# Altium integrated library Linear Technology Power Management Hot Swap Controllers.IntLib: 992 symbols (part 60 of 93)
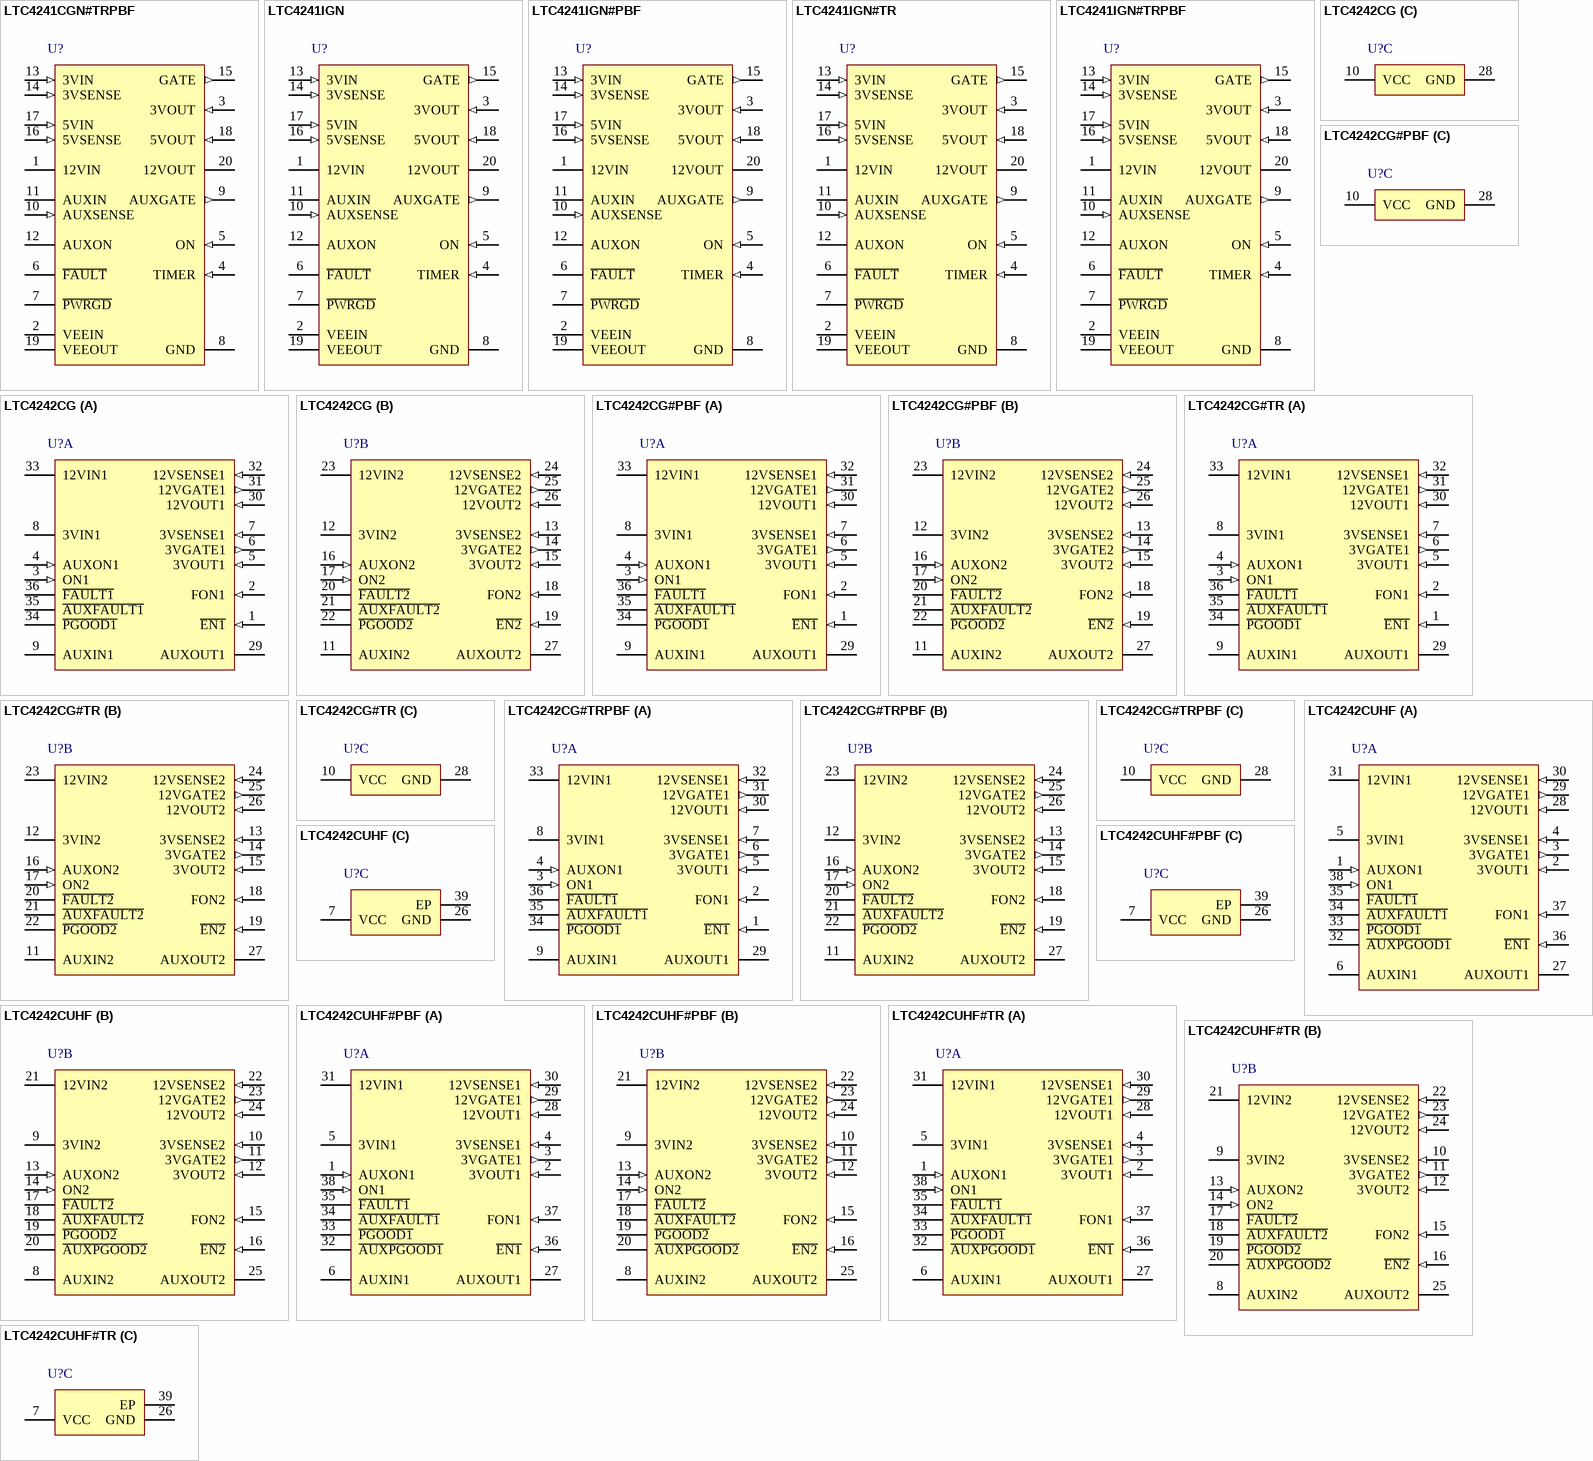
[diagram p96: symbols LTC4241CGN#TRPBF to LTC4242CUHF#TR]

## LTC4241CGN#TRPBF
designator U?
PCI-Bus with Auxiliary Hot Swap Controller, 3.3 V, 5 V, +/-12 V, 3.3 V Aux Vin, 20-pin SOP (GN-20), 0 to 70 degC, Pb-Free, Tape and Reel; Manufacturer: Linear Technology; PartNumber: LTC4241CGN#TRPBF; Active Limiting: yes; Circuit Breaker Accuracy(%): 27; Circuit Breaker Threshold: 55 mV (3.3,5), 850 mA (12), 450 mA (-12); Circuit Breakers(#): 5; Extended Temp: C, I; Fast Comparator: no; In-Rush Current: Active; PackageVersion: Rev. B, 03/2012; PackageReference: GN-20; PackageDescription: 20-Pin Plastic SSOP, Body 8.649 x 3.899 mm, Pitch 0.635 mm; Supplier 1: Digi-Key; Supplier Part Number 1: LTC4241CGN#TRPBF-ND; Fault: yes; Foldback: yes; Packing: Tape and Reel; Power Good: yes; Reset: no; RoHS: TRUE; Vin Range: 3.3 V, 5 V, +/-12 V, 3.3 V aux; Mounting Technology: Surface Mount; ComponentLink1Description: Manufacturer URL; ComponentLink1URL: http://www.linear.com/; ComponentLink2Description: Datasheet; ComponentLink2URL: http://cds.linear.com/docs/en/datasheet/4241fs.pdf; ComponentLink3Description: Package Specification; ComponentLink3URL: http://cds.linear.com/docs/en/packaging/05081641_B_GN20.pdf
footprint LT-GN-20_N (SOP, 20-Leads, Body 8.7x4mm, Pitch 0.635mm, IPC Medium Density)
footprint LT-GN-20_L (SOP, 20-Leads, Body 8.7x4mm, Pitch 0.635mm, IPC High Density)
footprint LT-GN-20_M (SOP, 20-Leads, Body 8.7x4mm, Pitch 0.635mm, IPC Low Density)
pins: 1 12VIN (power) "12V Supply Input. This pin powers the primary controller internal circuitry. A 0.5ohm switch is connected between 12VIN and 12VOUT with a foldback current limit. An undervoltage lockout circuit prevents the switches from (See Datasheet)", 2 VEEIN (power) "-12V Supply Input. A 1.2ohm switch is connected between VEEIN and VEEOUT with a foldback current limit.", 3 3VOUT (in) "3.3V Output Monitor. Used to monitor the 3.3V output supply voltage. The P\W\R\G\D\ signal cannot go low until the 3VOUT pin exceeds 2.9V.", 4 TIMER (in) "Current Limit Fault Timer Input. Connect a capacitor from TIMER to ground.", 5 ON (in) "On Control Input. A rising edge turns on the external N-channel FETs for 3.3V and 5V PCI supplies, the internal 12V and -12V switches and a falling edge turns it off. If the ON pin is cycled low then high following the trip (See Datasheet)", 6 ~{FAULT} (oc) "Fault Output. Open drain logic output used by both the primary and auxiliary controller to indicate an overcurrent fault condition.", 7 ~{PWRGD} (oc) "Power Good Output. Open drain logic output used by the primary controller to indicate the voltage status of the PCI supplies.", 8 GND (power) "Chip Ground", 9 AUXGATE (out) "High Side Gate Drive for the 3.3V Auxiliary External N-channel MOSFET. An internal charge pump generates at least 8V of gate drive from a 3.3V auxiliary supply.", 10 AUXSENSE (in) "3.3V Auxiliary Circuit Breaker Current Sense Input. The load current is monitored by a sense resistor connected between AUXIN and AUXSENSE. The circuit breaker trips if the voltage across the sense resistor exceeds 50mV and (See Datasheet)", 11 AUXIN (power) "3.3V Auxiliary Supply Input. This pin powers the auxiliary controller internal circuitry.", 12 AUXON (power) "ON Control Input for Auxiliary Supply. A rising edge turns on the external N-channel FET for 3.3V auxiliary supply and a falling edge turns it off. If the AUXON pin is cycled low then high following the trip of the circuit (See Datasheet)", 13 3VIN (in) "3.3V Supply Sense Input.", 14 3VSENSE (in) "3.3V Current Limit Set Pin.", 15 GATE (out) "High Side Gate Drive for the 3.3V and 5V PCI Supplies External N-channel MOSFETs.", 16 5VSENSE (in) "5V Current Limit Set Pin.", 17 5VIN (in) "5V Supply Sense Input.", 18 5VOUT (in) "5V Output Monitor.Used to monitor the 5V output supply voltage. The PWRGD signal cannot go low until the 5VOUT pin exceeds 4.65V.", 19 VEEOUT (power) "-12V Supply Output.", 20 12VOUT (power) "12V Supply Output.A 0.5ohm switch is connected between 12VIN and 12VOUT. 12VOUT must exceed 11.1V before the P\W\R\G\D\ signal can go low on the LTC4241"

## LTC4241IGN
designator U?
PCI-Bus with Auxiliary Hot Swap Controller, 3.3 V, 5 V, +/-12 V, 3.3 V Aux Vin, 20-pin SOP (GN-20), -40 to 85 degC; Manufacturer: Linear Technology; PartNumber: LTC4241IGN; Active Limiting: yes; Circuit Breaker Accuracy(%): 27; Circuit Breaker Threshold: 55 mV (3.3,5), 850 mA (12), 450 mA (-12); Circuit Breakers(#): 5; Extended Temp: C, I; Fast Comparator: no; In-Rush Current: Active; PackageVersion: Rev. B, 03/2012; PackageReference: GN-20; PackageDescription: 20-Pin Plastic SSOP, Body 8.649 x 3.899 mm, Pitch 0.635 mm; Supplier 1: Digi-Key; Supplier Part Number 1: LTC4241IGN-ND; Fault: yes; Foldback: yes; Power Good: yes; Reset: no; RoHS: FALSE; Vin Range: 3.3 V, 5 V, +/-12 V, 3.3 V aux; Mounting Technology: Surface Mount; ComponentLink1Description: Manufacturer URL; ComponentLink1URL: http://www.linear.com/; ComponentLink2Description: Datasheet; ComponentLink2URL: http://cds.linear.com/docs/en/datasheet/4241fs.pdf; ComponentLink3Description: Package Specification; ComponentLink3URL: http://cds.linear.com/docs/en/packaging/05081641_B_GN20.pdf
footprint LT-GN-20_N (SOP, 20-Leads, Body 8.7x4mm, Pitch 0.635mm, IPC Medium Density)
footprint LT-GN-20_L (SOP, 20-Leads, Body 8.7x4mm, Pitch 0.635mm, IPC High Density)
footprint LT-GN-20_M (SOP, 20-Leads, Body 8.7x4mm, Pitch 0.635mm, IPC Low Density)
pins: 1 12VIN (power) "12V Supply Input. This pin powers the primary controller internal circuitry. A 0.5ohm switch is connected between 12VIN and 12VOUT with a foldback current limit. An undervoltage lockout circuit prevents the switches from (See Datasheet)", 2 VEEIN (power) "-12V Supply Input. A 1.2ohm switch is connected between VEEIN and VEEOUT with a foldback current limit.", 3 3VOUT (in) "3.3V Output Monitor. Used to monitor the 3.3V output supply voltage. The P\W\R\G\D\ signal cannot go low until the 3VOUT pin exceeds 2.9V.", 4 TIMER (in) "Current Limit Fault Timer Input. Connect a capacitor from TIMER to ground.", 5 ON (in) "On Control Input. A rising edge turns on the external N-channel FETs for 3.3V and 5V PCI supplies, the internal 12V and -12V switches and a falling edge turns it off. If the ON pin is cycled low then high following the trip (See Datasheet)", 6 ~{FAULT} (oc) "Fault Output. Open drain logic output used by both the primary and auxiliary controller to indicate an overcurrent fault condition.", 7 ~{PWRGD} (oc) "Power Good Output. Open drain logic output used by the primary controller to indicate the voltage status of the PCI supplies.", 8 GND (power) "Chip Ground", 9 AUXGATE (out) "High Side Gate Drive for the 3.3V Auxiliary External N-channel MOSFET. An internal charge pump generates at least 8V of gate drive from a 3.3V auxiliary supply.", 10 AUXSENSE (in) "3.3V Auxiliary Circuit Breaker Current Sense Input. The load current is monitored by a sense resistor connected between AUXIN and AUXSENSE. The circuit breaker trips if the voltage across the sense resistor exceeds 50mV and (See Datasheet)", 11 AUXIN (power) "3.3V Auxiliary Supply Input. This pin powers the auxiliary controller internal circuitry.", 12 AUXON (power) "ON Control Input for Auxiliary Supply. A rising edge turns on the external N-channel FET for 3.3V auxiliary supply and a falling edge turns it off. If the AUXON pin is cycled low then high following the trip of the circuit (See Datasheet)", 13 3VIN (in) "3.3V Supply Sense Input.", 14 3VSENSE (in) "3.3V Current Limit Set Pin.", 15 GATE (out) "High Side Gate Drive for the 3.3V and 5V PCI Supplies External N-channel MOSFETs.", 16 5VSENSE (in) "5V Current Limit Set Pin.", 17 5VIN (in) "5V Supply Sense Input.", 18 5VOUT (in) "5V Output Monitor.Used to monitor the 5V output supply voltage. The PWRGD signal cannot go low until the 5VOUT pin exceeds 4.65V.", 19 VEEOUT (power) "-12V Supply Output.", 20 12VOUT (power) "12V Supply Output.A 0.5ohm switch is connected between 12VIN and 12VOUT. 12VOUT must exceed 11.1V before the P\W\R\G\D\ signal can go low on the LTC4241"

## LTC4241IGN#PBF
designator U?
PCI-Bus with Auxiliary Hot Swap Controller, 3.3 V, 5 V, +/-12 V, 3.3 V Aux Vin, 20-pin SOP (GN-20), -40 to 85 degC, Pb-Free; Manufacturer: Linear Technology; PartNumber: LTC4241IGN#PBF; Active Limiting: yes; Circuit Breaker Accuracy(%): 27; Circuit Breaker Threshold: 55 mV (3.3,5), 850 mA (12), 450 mA (-12); Circuit Breakers(#): 5; Extended Temp: C, I; Fast Comparator: no; In-Rush Current: Active; PackageVersion: Rev. B, 03/2012; PackageReference: GN-20; PackageDescription: 20-Pin Plastic SSOP, Body 8.649 x 3.899 mm, Pitch 0.635 mm; Supplier 1: Digi-Key; Supplier Part Number 1: LTC4241IGN#PBF-ND; Fault: yes; Foldback: yes; Power Good: yes; Reset: no; RoHS: TRUE; Vin Range: 3.3 V, 5 V, +/-12 V, 3.3 V aux; Mounting Technology: Surface Mount; ComponentLink1Description: Manufacturer URL; ComponentLink1URL: http://www.linear.com/; ComponentLink2Description: Datasheet; ComponentLink2URL: http://cds.linear.com/docs/en/datasheet/4241fs.pdf; ComponentLink3Description: Package Specification; ComponentLink3URL: http://cds.linear.com/docs/en/packaging/05081641_B_GN20.pdf
footprint LT-GN-20_N (SOP, 20-Leads, Body 8.7x4mm, Pitch 0.635mm, IPC Medium Density)
footprint LT-GN-20_L (SOP, 20-Leads, Body 8.7x4mm, Pitch 0.635mm, IPC High Density)
footprint LT-GN-20_M (SOP, 20-Leads, Body 8.7x4mm, Pitch 0.635mm, IPC Low Density)
pins: 1 12VIN (power) "12V Supply Input. This pin powers the primary controller internal circuitry. A 0.5ohm switch is connected between 12VIN and 12VOUT with a foldback current limit. An undervoltage lockout circuit prevents the switches from (See Datasheet)", 2 VEEIN (power) "-12V Supply Input. A 1.2ohm switch is connected between VEEIN and VEEOUT with a foldback current limit.", 3 3VOUT (in) "3.3V Output Monitor. Used to monitor the 3.3V output supply voltage. The P\W\R\G\D\ signal cannot go low until the 3VOUT pin exceeds 2.9V.", 4 TIMER (in) "Current Limit Fault Timer Input. Connect a capacitor from TIMER to ground.", 5 ON (in) "On Control Input. A rising edge turns on the external N-channel FETs for 3.3V and 5V PCI supplies, the internal 12V and -12V switches and a falling edge turns it off. If the ON pin is cycled low then high following the trip (See Datasheet)", 6 ~{FAULT} (oc) "Fault Output. Open drain logic output used by both the primary and auxiliary controller to indicate an overcurrent fault condition.", 7 ~{PWRGD} (oc) "Power Good Output. Open drain logic output used by the primary controller to indicate the voltage status of the PCI supplies.", 8 GND (power) "Chip Ground", 9 AUXGATE (out) "High Side Gate Drive for the 3.3V Auxiliary External N-channel MOSFET. An internal charge pump generates at least 8V of gate drive from a 3.3V auxiliary supply.", 10 AUXSENSE (in) "3.3V Auxiliary Circuit Breaker Current Sense Input. The load current is monitored by a sense resistor connected between AUXIN and AUXSENSE. The circuit breaker trips if the voltage across the sense resistor exceeds 50mV and (See Datasheet)", 11 AUXIN (power) "3.3V Auxiliary Supply Input. This pin powers the auxiliary controller internal circuitry.", 12 AUXON (power) "ON Control Input for Auxiliary Supply. A rising edge turns on the external N-channel FET for 3.3V auxiliary supply and a falling edge turns it off. If the AUXON pin is cycled low then high following the trip of the circuit (See Datasheet)", 13 3VIN (in) "3.3V Supply Sense Input.", 14 3VSENSE (in) "3.3V Current Limit Set Pin.", 15 GATE (out) "High Side Gate Drive for the 3.3V and 5V PCI Supplies External N-channel MOSFETs.", 16 5VSENSE (in) "5V Current Limit Set Pin.", 17 5VIN (in) "5V Supply Sense Input.", 18 5VOUT (in) "5V Output Monitor.Used to monitor the 5V output supply voltage. The PWRGD signal cannot go low until the 5VOUT pin exceeds 4.65V.", 19 VEEOUT (power) "-12V Supply Output.", 20 12VOUT (power) "12V Supply Output.A 0.5ohm switch is connected between 12VIN and 12VOUT. 12VOUT must exceed 11.1V before the P\W\R\G\D\ signal can go low on the LTC4241"

## LTC4241IGN#TR
designator U?
PCI-Bus with Auxiliary Hot Swap Controller, 3.3 V, 5 V, +/-12 V, 3.3 V Aux Vin, 20-pin SOP (GN-20), -40 to 85 degC, Tape and Reel; Manufacturer: Linear Technology; PartNumber: LTC4241IGN#TR; Active Limiting: yes; Circuit Breaker Accuracy(%): 27; Circuit Breaker Threshold: 55 mV (3.3,5), 850 mA (12), 450 mA (-12); Circuit Breakers(#): 5; Extended Temp: C, I; Fast Comparator: no; In-Rush Current: Active; PackageVersion: Rev. B, 03/2012; PackageReference: GN-20; PackageDescription: 20-Pin Plastic SSOP, Body 8.649 x 3.899 mm, Pitch 0.635 mm; Supplier 1: Digi-Key; Supplier Part Number 1: LTC4241IGN#TR-ND; Fault: yes; Foldback: yes; Packing: Tape and Reel; Power Good: yes; Reset: no; RoHS: FALSE; Vin Range: 3.3 V, 5 V, +/-12 V, 3.3 V aux; Mounting Technology: Surface Mount; ComponentLink1Description: Manufacturer URL; ComponentLink1URL: http://www.linear.com/; ComponentLink2Description: Datasheet; ComponentLink2URL: http://cds.linear.com/docs/en/datasheet/4241fs.pdf; ComponentLink3Description: Package Specification; ComponentLink3URL: http://cds.linear.com/docs/en/packaging/05081641_B_GN20.pdf
footprint LT-GN-20_N (SOP, 20-Leads, Body 8.7x4mm, Pitch 0.635mm, IPC Medium Density)
footprint LT-GN-20_L (SOP, 20-Leads, Body 8.7x4mm, Pitch 0.635mm, IPC High Density)
footprint LT-GN-20_M (SOP, 20-Leads, Body 8.7x4mm, Pitch 0.635mm, IPC Low Density)
pins: 1 12VIN (power) "12V Supply Input. This pin powers the primary controller internal circuitry. A 0.5ohm switch is connected between 12VIN and 12VOUT with a foldback current limit. An undervoltage lockout circuit prevents the switches from (See Datasheet)", 2 VEEIN (power) "-12V Supply Input. A 1.2ohm switch is connected between VEEIN and VEEOUT with a foldback current limit.", 3 3VOUT (in) "3.3V Output Monitor. Used to monitor the 3.3V output supply voltage. The P\W\R\G\D\ signal cannot go low until the 3VOUT pin exceeds 2.9V.", 4 TIMER (in) "Current Limit Fault Timer Input. Connect a capacitor from TIMER to ground.", 5 ON (in) "On Control Input. A rising edge turns on the external N-channel FETs for 3.3V and 5V PCI supplies, the internal 12V and -12V switches and a falling edge turns it off. If the ON pin is cycled low then high following the trip (See Datasheet)", 6 ~{FAULT} (oc) "Fault Output. Open drain logic output used by both the primary and auxiliary controller to indicate an overcurrent fault condition.", 7 ~{PWRGD} (oc) "Power Good Output. Open drain logic output used by the primary controller to indicate the voltage status of the PCI supplies.", 8 GND (power) "Chip Ground", 9 AUXGATE (out) "High Side Gate Drive for the 3.3V Auxiliary External N-channel MOSFET. An internal charge pump generates at least 8V of gate drive from a 3.3V auxiliary supply.", 10 AUXSENSE (in) "3.3V Auxiliary Circuit Breaker Current Sense Input. The load current is monitored by a sense resistor connected between AUXIN and AUXSENSE. The circuit breaker trips if the voltage across the sense resistor exceeds 50mV and (See Datasheet)", 11 AUXIN (power) "3.3V Auxiliary Supply Input. This pin powers the auxiliary controller internal circuitry.", 12 AUXON (power) "ON Control Input for Auxiliary Supply. A rising edge turns on the external N-channel FET for 3.3V auxiliary supply and a falling edge turns it off. If the AUXON pin is cycled low then high following the trip of the circuit (See Datasheet)", 13 3VIN (in) "3.3V Supply Sense Input.", 14 3VSENSE (in) "3.3V Current Limit Set Pin.", 15 GATE (out) "High Side Gate Drive for the 3.3V and 5V PCI Supplies External N-channel MOSFETs.", 16 5VSENSE (in) "5V Current Limit Set Pin.", 17 5VIN (in) "5V Supply Sense Input.", 18 5VOUT (in) "5V Output Monitor.Used to monitor the 5V output supply voltage. The PWRGD signal cannot go low until the 5VOUT pin exceeds 4.65V.", 19 VEEOUT (power) "-12V Supply Output.", 20 12VOUT (power) "12V Supply Output.A 0.5ohm switch is connected between 12VIN and 12VOUT. 12VOUT must exceed 11.1V before the P\W\R\G\D\ signal can go low on the LTC4241"

## LTC4241IGN#TRPBF
designator U?
PCI-Bus with Auxiliary Hot Swap Controller, 3.3 V, 5 V, +/-12 V, 3.3 V Aux Vin, 20-pin SOP (GN-20), -40 to 85 degC, Pb-Free, Tape and Reel; Manufacturer: Linear Technology; PartNumber: LTC4241IGN#TRPBF; Active Limiting: yes; Circuit Breaker Accuracy(%): 27; Circuit Breaker Threshold: 55 mV (3.3,5), 850 mA (12), 450 mA (-12); Circuit Breakers(#): 5; Extended Temp: C, I; Fast Comparator: no; In-Rush Current: Active; PackageVersion: Rev. B, 03/2012; PackageReference: GN-20; PackageDescription: 20-Pin Plastic SSOP, Body 8.649 x 3.899 mm, Pitch 0.635 mm; Supplier 1: Digi-Key; Supplier Part Number 1: LTC4241IGN#TRPBF-ND; Fault: yes; Foldback: yes; Packing: Tape and Reel; Power Good: yes; Reset: no; RoHS: TRUE; Vin Range: 3.3 V, 5 V, +/-12 V, 3.3 V aux; Mounting Technology: Surface Mount; ComponentLink1Description: Manufacturer URL; ComponentLink1URL: http://www.linear.com/; ComponentLink2Description: Datasheet; ComponentLink2URL: http://cds.linear.com/docs/en/datasheet/4241fs.pdf; ComponentLink3Description: Package Specification; ComponentLink3URL: http://cds.linear.com/docs/en/packaging/05081641_B_GN20.pdf
footprint LT-GN-20_N (SOP, 20-Leads, Body 8.7x4mm, Pitch 0.635mm, IPC Medium Density)
footprint LT-GN-20_L (SOP, 20-Leads, Body 8.7x4mm, Pitch 0.635mm, IPC High Density)
footprint LT-GN-20_M (SOP, 20-Leads, Body 8.7x4mm, Pitch 0.635mm, IPC Low Density)
pins: 1 12VIN (power) "12V Supply Input. This pin powers the primary controller internal circuitry. A 0.5ohm switch is connected between 12VIN and 12VOUT with a foldback current limit. An undervoltage lockout circuit prevents the switches from (See Datasheet)", 2 VEEIN (power) "-12V Supply Input. A 1.2ohm switch is connected between VEEIN and VEEOUT with a foldback current limit.", 3 3VOUT (in) "3.3V Output Monitor. Used to monitor the 3.3V output supply voltage. The P\W\R\G\D\ signal cannot go low until the 3VOUT pin exceeds 2.9V.", 4 TIMER (in) "Current Limit Fault Timer Input. Connect a capacitor from TIMER to ground.", 5 ON (in) "On Control Input. A rising edge turns on the external N-channel FETs for 3.3V and 5V PCI supplies, the internal 12V and -12V switches and a falling edge turns it off. If the ON pin is cycled low then high following the trip (See Datasheet)", 6 ~{FAULT} (oc) "Fault Output. Open drain logic output used by both the primary and auxiliary controller to indicate an overcurrent fault condition.", 7 ~{PWRGD} (oc) "Power Good Output. Open drain logic output used by the primary controller to indicate the voltage status of the PCI supplies.", 8 GND (power) "Chip Ground", 9 AUXGATE (out) "High Side Gate Drive for the 3.3V Auxiliary External N-channel MOSFET. An internal charge pump generates at least 8V of gate drive from a 3.3V auxiliary supply.", 10 AUXSENSE (in) "3.3V Auxiliary Circuit Breaker Current Sense Input. The load current is monitored by a sense resistor connected between AUXIN and AUXSENSE. The circuit breaker trips if the voltage across the sense resistor exceeds 50mV and (See Datasheet)", 11 AUXIN (power) "3.3V Auxiliary Supply Input. This pin powers the auxiliary controller internal circuitry.", 12 AUXON (power) "ON Control Input for Auxiliary Supply. A rising edge turns on the external N-channel FET for 3.3V auxiliary supply and a falling edge turns it off. If the AUXON pin is cycled low then high following the trip of the circuit (See Datasheet)", 13 3VIN (in) "3.3V Supply Sense Input.", 14 3VSENSE (in) "3.3V Current Limit Set Pin.", 15 GATE (out) "High Side Gate Drive for the 3.3V and 5V PCI Supplies External N-channel MOSFETs.", 16 5VSENSE (in) "5V Current Limit Set Pin.", 17 5VIN (in) "5V Supply Sense Input.", 18 5VOUT (in) "5V Output Monitor.Used to monitor the 5V output supply voltage. The PWRGD signal cannot go low until the 5VOUT pin exceeds 4.65V.", 19 VEEOUT (power) "-12V Supply Output.", 20 12VOUT (power) "12V Supply Output.A 0.5ohm switch is connected between 12VIN and 12VOUT. 12VOUT must exceed 11.1V before the P\W\R\G\D\ signal can go low on the LTC4241"

## LTC4242CG
designator U?
Dual Slot Hot Swap Controller for PCI Express, 3.3 V, 12 V, 3.3 V Aux Vin, 36-pin SOP (G-36), 0 to 70 degC; Manufacturer: Linear Technology; PartNumber: LTC4242CG; Active Limiting: yes; Circuit Breaker Accuracy(%): 10; Circuit Breaker Threshold: 50 mV (3.3,12), 550 mA (3.3 aux); Circuit Breakers(#): 6; Extended Temp: C, I; PackageReference: G-36; PackageDescription: 36-Pin Plastic SSOP, Body 12.8 x 5.3 mm, Pitch 0.65 mm; Fault: yes; Power Good: yes; RoHS: FALSE; Vin Range: 3.3 V, 12 V, 3.3 V aux; Mounting Technology: Surface Mount; ComponentLink1Description: Manufacturer URL; ComponentLink1URL: http://www.linear.com/; ComponentLink2Description: Datasheet; ComponentLink2URL: http://cds.linear.com/docs/en/datasheet/4242f.pdf; ComponentLink3Description: Package Specification; ComponentLink3URL: http://cds.linear.com/docs/en/packaging/SSOP_36_05-08-1640.pdf
footprint LT-G-36_N (SOP, 36-Leads, Body 13.1x5.6mm, Pitch 0.65mm, IPC Medium Density)
footprint LT-G-36_L (SOP, 36-Leads, Body 13.1x5.6mm, Pitch 0.65mm, IPC High Density)
footprint LT-G-36_M (SOP, 36-Leads, Body 13.1x5.6mm, Pitch 0.65mm, IPC Low Density)
part A pins: 1 ~{EN1} (in) "Card Presence/Slot Insert Detect Input. E\N\n\ pin must be pulled below 1.235V to enable the system. An internal 9uA pull-up current source is present on this pin.", 2 FON1 (in) "Force On Digital Input. For diagnostic purposes, a high input overrides undervoltage and overcurrent faults on 12V, 3.3V and AUX channels and input commands on the ONn and AUXONn pins. However, UVLO on VCC would shut off the (See Datasheet)", 3 ON1 (in) "Main Supply On Control Input. A rising edge turns on the external MOSFETs for the 12V and 3.3V supplies, while a falling edge turns them off. Pull this pin below 0.6V to clear the faults on 12V and 3.3V channels.", 4 AUXON1 (in) "AUX Supply On Control Input. A rising edge turns on the internal FET, while a falling edge turns it off. Pulling this pin below 0.6V for more than 3.5us clears the fault on the AUX channel.", 5 3VOUT1 (in) "3.3V Output Connection. Connect this pin to the source of the 3.3V supply external N-channel MOSFET for gate drive return. P\G\O\O\D\1\/P\G\O\O\D\2\ cannot pull low until this pin goes above 2.855V. A 375ohm active pull-down (See Datasheet)", 6 3VGATE1 (out) "Gate Drive for 3.3V Supply External N-Channel MOSFET. An internal charge pump provides a 9uA pull-up current to ramp up 3VGATEn. During turn off, a 1mA pull-down current source discharges 3VGATEn to ground. 3VGATEn is (See Datasheet)", 7 3VSENSE1 (in) "3.3V Supply Current Limit Sense Input. A sense resistor is placed in the supply path between 3VINn and 3VSENSEn to sense 3.3V channel’s load current. The voltage across the sense resistor is monitored for active curren(See Datasheet)", 8 3VIN1 (power) "3.3V Supply Input. An undervoltage lockout circuit disables the 3.3V and 12V supplies when 3VINn voltage is less than 2.67V.", 9 AUXIN1 (power) "AUX Supply Input. An undervoltage lockout circuit disables the AUX supply when the voltage at AUXINn is less than 2.67V. AUXINn is the input to the internal pass FET.", 29 AUXOUT1 (power) "AUX Supply Output. AUXOUTn is the output from the internal pass FET. A\U\X\P\G\O\O\D\1\/A\U\X\P\G\O\O\D\2\ cannot pull low until this pin goes above 2.855V. A 750ohm active pull-down discharges AUXOUTn to ground when the (See Datasheet)", 30 12VOUT1 (in) "12V Output Connection. Connect this pin to the source of the 12V supply external N-channel MOSFET for gate drive return. P\G\O\O\D\1\/P\G\O\O\D\2\ cannot pull low until this pin goes above 10.38V. A 700ohm active pull-down (See Datasheet)", 31 12VGATE1 (out) "Gate Drive for 12V Supply External N-Channel MOSFET. An internal charge pump provides a 9uA pull-up current to ramp up 12VGATEn. During turn off, a 1mA pull-down current source discharges 12VGATEn to ground. 12VGATEn is (See Datasheet)", 32 12VSENSE1 (in) "12V Supply Current Limit Sense Input. A sense resistor is placed in the supply path between 12VINn and 12VSENSEn to sense the 12V channel’s load current. The voltage across the sense resistor is monitored for activ(See Datasheet)", 33 12VIN1 (power) "12V Supply Input. An undervoltage lockout circuit disables the 12V and 3.3V supplies when 12VINn voltage is less than 9.78V.", 34 ~{PGOOD1} (oc) "Main Supply Power Status Output. This open-drain pin is pulled high by an internal 9uA pull-up when 12VOUTn or 3VOUTn is below power good threshold, when E\N\n\ is high, ONn is low or when VCC or any of the main supplies are (See Datasheet)", 35 ~{AUXFAULT1} (oc) "AUX Supply Fault Status Output. A\U\X\F\A\U\L\T\n\ is normally pulled high by an internal 9uA pull-up. It asserts low if the AUX channel shuts off due to an overcurrent fault or due to the device temperature rising above (See Datasheet)", 36 ~{FAULT1} (oc) "Main Supplies Fault Status Output. F\A\U\L\T\n\ is pulled high by an internal 9uA pull-up. When an overcurrent fault occurs at either the 12V or 3.3V supply, F\A\U\L\T\n\ is latched low."
part B pins: 11 AUXIN2 (power) "AUX Supply Input. An undervoltage lockout circuit disables the AUX supply when the voltage at AUXINn is less than 2.67V. AUXINn is the input to the internal pass FET.", 12 3VIN2 (power) "3.3V Supply Input. An undervoltage lockout circuit disables the 3.3V and 12V supplies when 3VINn voltage is less than 2.67V.", 13 3VSENSE2 (in) "3.3V Supply Current Limit Sense Input. A sense resistor is placed in the supply path between 3VINn and 3VSENSEn to sense 3.3V channel’s load current. The voltage across the sense resistor is monitored for active curren(See Datasheet)", 14 3VGATE2 (out) "Gate Drive for 3.3V Supply External N-Channel MOSFET. An internal charge pump provides a 9uA pull-up current to ramp up 3VGATEn. During turn off, a 1mA pull-down current source discharges 3VGATEn to ground. 3VGATEn is (See Datasheet)", 15 3VOUT2 (in) "3.3V Output Connection. Connect this pin to the source of the 3.3V supply external N-channel MOSFET for gate drive return. P\G\O\O\D\1\/P\G\O\O\D\2\ cannot pull low until this pin goes above 2.855V. A 375ohm active pull-down (See Datasheet)", 16 AUXON2 (in) "AUX Supply On Control Input. A rising edge turns on the internal FET, while a falling edge turns it off. Pulling this pin below 0.6V for more than 3.5us clears the fault on the AUX channel.", 17 ON2 (in) "Main Supply On Control Input. A rising edge turns on the external MOSFETs for the 12V and 3.3V supplies, while a falling edge turns them off. Pull this pin below 0.6V to clear the faults on 12V and 3.3V channels.", 18 FON2 (in) "Force On Digital Input. For diagnostic purposes, a high input overrides undervoltage and overcurrent faults on 12V, 3.3V and AUX channels and input commands on the ONn and AUXONn pins. However, UVLO on VCC would shut off the (See Datasheet)", 19 ~{EN2} (in) "Card Presence/Slot Insert Detect Input. E\N\n\ pin must be pulled below 1.235V to enable the system. An internal 9uA pull-up current source is present on this pin.", 20 ~{FAULT2} (oc) "Main Supplies Fault Status Output. F\A\U\L\T\n\ is pulled high by an internal 9uA pull-up. When an overcurrent fault occurs at either the 12V or 3.3V supply, F\A\U\L\T\n\ is latched low.", 21 ~{AUXFAULT2} (oc) "AUX Supply Fault Status Output. A\U\X\F\A\U\L\T\n\ is normally pulled high by an internal 9uA pull-up. It asserts low if the AUX channel shuts off due to an overcurrent fault or due to the device temperature rising above (See Datasheet)", 22 ~{PGOOD2} (oc) "Main Supply Power Status Output. This open-drain pin is pulled high by an internal 9uA pull-up when 12VOUTn or 3VOUTn is below power good threshold, when E\N\n\ is high, ONn is low or when VCC or any of the main supplies are (See Datasheet)", 23 12VIN2 (power) "12V Supply Input. An undervoltage lockout circuit disables the 12V and 3.3V supplies when 12VINn voltage is less than 9.78V.", 24 12VSENSE2 (in) "12V Supply Current Limit Sense Input. A sense resistor is placed in the supply path between 12VINn and 12VSENSEn to sense the 12V channel’s load current. The voltage across the sense resistor is monitored for activ(See Datasheet)", 25 12VGATE2 (out) "Gate Drive for 12V Supply External N-Channel MOSFET. An internal charge pump provides a 9uA pull-up current to ramp up 12VGATEn. During turn off, a 1mA pull-down current source discharges 12VGATEn to ground. 12VGATEn is (See Datasheet)", 26 12VOUT2 (in) "12V Output Connection. Connect this pin to the source of the 12V supply external N-channel MOSFET for gate drive return. P\G\O\O\D\1\/P\G\O\O\D\2\ cannot pull low until this pin goes above 10.38V. A 700ohm active pull-down (See Datasheet)", 27 AUXOUT2 (power) "AUX Supply Output. AUXOUTn is the output from the internal pass FET. A\U\X\P\G\O\O\D\1\/A\U\X\P\G\O\O\D\2\ cannot pull low until this pin goes above 2.855V. A 750ohm active pull-down discharges AUXOUTn to ground when the (See Datasheet)"
part C pins: 10 VCC (power) "Device Supply Input. Operates from 2.7V to 6V. An internal undervoltage lockout circuit disables the part until the voltage at VCC exceeds 2.45V.", 28 GND (power) "Device Ground. Connect to a ground plane."

## LTC4242CG#PBF
designator U?
Dual Slot Hot Swap Controller for PCI Express, 3.3 V, 12 V, 3.3 V Aux Vin, 36-pin SOP (G-36), 0 to 70 degC, Pb-Free; Manufacturer: Linear Technology; PartNumber: LTC4242CG#PBF; Active Limiting: yes; Circuit Breaker Accuracy(%): 10; Circuit Breaker Threshold: 50 mV (3.3,12), 550 mA (3.3 aux); Circuit Breakers(#): 6; Extended Temp: C, I; PackageReference: G-36; PackageDescription: 36-Pin Plastic SSOP, Body 12.8 x 5.3 mm, Pitch 0.65 mm; Supplier 1: Digi-Key; Supplier Part Number 1: LTC4242CG#PBF-ND; Fault: yes; Power Good: yes; RoHS: TRUE; Vin Range: 3.3 V, 12 V, 3.3 V aux; Mounting Technology: Surface Mount; ComponentLink1Description: Manufacturer URL; ComponentLink1URL: http://www.linear.com/; ComponentLink2Description: Datasheet; ComponentLink2URL: http://cds.linear.com/docs/en/datasheet/4242f.pdf; ComponentLink3Description: Package Specification; ComponentLink3URL: http://cds.linear.com/docs/en/packaging/SSOP_36_05-08-1640.pdf
footprint LT-G-36_N (SOP, 36-Leads, Body 13.1x5.6mm, Pitch 0.65mm, IPC Medium Density)
footprint LT-G-36_L (SOP, 36-Leads, Body 13.1x5.6mm, Pitch 0.65mm, IPC High Density)
footprint LT-G-36_M (SOP, 36-Leads, Body 13.1x5.6mm, Pitch 0.65mm, IPC Low Density)
part A pins: 1 ~{EN1} (in) "Card Presence/Slot Insert Detect Input. E\N\n\ pin must be pulled below 1.235V to enable the system. An internal 9uA pull-up current source is present on this pin.", 2 FON1 (in) "Force On Digital Input. For diagnostic purposes, a high input overrides undervoltage and overcurrent faults on 12V, 3.3V and AUX channels and input commands on the ONn and AUXONn pins. However, UVLO on VCC would shut off the (See Datasheet)", 3 ON1 (in) "Main Supply On Control Input. A rising edge turns on the external MOSFETs for the 12V and 3.3V supplies, while a falling edge turns them off. Pull this pin below 0.6V to clear the faults on 12V and 3.3V channels.", 4 AUXON1 (in) "AUX Supply On Control Input. A rising edge turns on the internal FET, while a falling edge turns it off. Pulling this pin below 0.6V for more than 3.5us clears the fault on the AUX channel.", 5 3VOUT1 (in) "3.3V Output Connection. Connect this pin to the source of the 3.3V supply external N-channel MOSFET for gate drive return. P\G\O\O\D\1\/P\G\O\O\D\2\ cannot pull low until this pin goes above 2.855V. A 375ohm active pull-down (See Datasheet)", 6 3VGATE1 (out) "Gate Drive for 3.3V Supply External N-Channel MOSFET. An internal charge pump provides a 9uA pull-up current to ramp up 3VGATEn. During turn off, a 1mA pull-down current source discharges 3VGATEn to ground. 3VGATEn is (See Datasheet)", 7 3VSENSE1 (in) "3.3V Supply Current Limit Sense Input. A sense resistor is placed in the supply path between 3VINn and 3VSENSEn to sense 3.3V channel’s load current. The voltage across the sense resistor is monitored for active curren(See Datasheet)", 8 3VIN1 (power) "3.3V Supply Input. An undervoltage lockout circuit disables the 3.3V and 12V supplies when 3VINn voltage is less than 2.67V.", 9 AUXIN1 (power) "AUX Supply Input. An undervoltage lockout circuit disables the AUX supply when the voltage at AUXINn is less than 2.67V. AUXINn is the input to the internal pass FET.", 29 AUXOUT1 (power) "AUX Supply Output. AUXOUTn is the output from the internal pass FET. A\U\X\P\G\O\O\D\1\/A\U\X\P\G\O\O\D\2\ cannot pull low until this pin goes above 2.855V. A 750ohm active pull-down discharges AUXOUTn to ground when the (See Datasheet)", 30 12VOUT1 (in) "12V Output Connection. Connect this pin to the source of the 12V supply external N-channel MOSFET for gate drive return. P\G\O\O\D\1\/P\G\O\O\D\2\ cannot pull low until this pin goes above 10.38V. A 700ohm active pull-down (See Datasheet)", 31 12VGATE1 (out) "Gate Drive for 12V Supply External N-Channel MOSFET. An internal charge pump provides a 9uA pull-up current to ramp up 12VGATEn. During turn off, a 1mA pull-down current source discharges 12VGATEn to ground. 12VGATEn is (See Datasheet)", 32 12VSENSE1 (in) "12V Supply Current Limit Sense Input. A sense resistor is placed in the supply path between 12VINn and 12VSENSEn to sense the 12V channel’s load current. The voltage across the sense resistor is monitored for activ(See Datasheet)", 33 12VIN1 (power) "12V Supply Input. An undervoltage lockout circuit disables the 12V and 3.3V supplies when 12VINn voltage is less than 9.78V.", 34 ~{PGOOD1} (oc) "Main Supply Power Status Output. This open-drain pin is pulled high by an internal 9uA pull-up when 12VOUTn or 3VOUTn is below power good threshold, when E\N\n\ is high, ONn is low or when VCC or any of the main supplies are (See Datasheet)", 35 ~{AUXFAULT1} (oc) "AUX Supply Fault Status Output. A\U\X\F\A\U\L\T\n\ is normally pulled high by an internal 9uA pull-up. It asserts low if the AUX channel shuts off due to an overcurrent fault or due to the device temperature rising above (See Datasheet)", 36 ~{FAULT1} (oc) "Main Supplies Fault Status Output. F\A\U\L\T\n\ is pulled high by an internal 9uA pull-up. When an overcurrent fault occurs at either the 12V or 3.3V supply, F\A\U\L\T\n\ is latched low."
part B pins: 11 AUXIN2 (power) "AUX Supply Input. An undervoltage lockout circuit disables the AUX supply when the voltage at AUXINn is less than 2.67V. AUXINn is the input to the internal pass FET.", 12 3VIN2 (power) "3.3V Supply Input. An undervoltage lockout circuit disables the 3.3V and 12V supplies when 3VINn voltage is less than 2.67V.", 13 3VSENSE2 (in) "3.3V Supply Current Limit Sense Input. A sense resistor is placed in the supply path between 3VINn and 3VSENSEn to sense 3.3V channel’s load current. The voltage across the sense resistor is monitored for active curren(See Datasheet)", 14 3VGATE2 (out) "Gate Drive for 3.3V Supply External N-Channel MOSFET. An internal charge pump provides a 9uA pull-up current to ramp up 3VGATEn. During turn off, a 1mA pull-down current source discharges 3VGATEn to ground. 3VGATEn is (See Datasheet)", 15 3VOUT2 (in) "3.3V Output Connection. Connect this pin to the source of the 3.3V supply external N-channel MOSFET for gate drive return. P\G\O\O\D\1\/P\G\O\O\D\2\ cannot pull low until this pin goes above 2.855V. A 375ohm active pull-down (See Datasheet)", 16 AUXON2 (in) "AUX Supply On Control Input. A rising edge turns on the internal FET, while a falling edge turns it off. Pulling this pin below 0.6V for more than 3.5us clears the fault on the AUX channel.", 17 ON2 (in) "Main Supply On Control Input. A rising edge turns on the external MOSFETs for the 12V and 3.3V supplies, while a falling edge turns them off. Pull this pin below 0.6V to clear the faults on 12V and 3.3V channels.", 18 FON2 (in) "Force On Digital Input. For diagnostic purposes, a high input overrides undervoltage and overcurrent faults on 12V, 3.3V and AUX channels and input commands on the ONn and AUXONn pins. However, UVLO on VCC would shut off the (See Datasheet)", 19 ~{EN2} (in) "Card Presence/Slot Insert Detect Input. E\N\n\ pin must be pulled below 1.235V to enable the system. An internal 9uA pull-up current source is present on this pin.", 20 ~{FAULT2} (oc) "Main Supplies Fault Status Output. F\A\U\L\T\n\ is pulled high by an internal 9uA pull-up. When an overcurrent fault occurs at either the 12V or 3.3V supply, F\A\U\L\T\n\ is latched low.", 21 ~{AUXFAULT2} (oc) "AUX Supply Fault Status Output. A\U\X\F\A\U\L\T\n\ is normally pulled high by an internal 9uA pull-up. It asserts low if the AUX channel shuts off due to an overcurrent fault or due to the device temperature rising above (See Datasheet)", 22 ~{PGOOD2} (oc) "Main Supply Power Status Output. This open-drain pin is pulled high by an internal 9uA pull-up when 12VOUTn or 3VOUTn is below power good threshold, when E\N\n\ is high, ONn is low or when VCC or any of the main supplies are (See Datasheet)", 23 12VIN2 (power) "12V Supply Input. An undervoltage lockout circuit disables the 12V and 3.3V supplies when 12VINn voltage is less than 9.78V.", 24 12VSENSE2 (in) "12V Supply Current Limit Sense Input. A sense resistor is placed in the supply path between 12VINn and 12VSENSEn to sense the 12V channel’s load current. The voltage across the sense resistor is monitored for activ(See Datasheet)", 25 12VGATE2 (out) "Gate Drive for 12V Supply External N-Channel MOSFET. An internal charge pump provides a 9uA pull-up current to ramp up 12VGATEn. During turn off, a 1mA pull-down current source discharges 12VGATEn to ground. 12VGATEn is (See Datasheet)", 26 12VOUT2 (in) "12V Output Connection. Connect this pin to the source of the 12V supply external N-channel MOSFET for gate drive return. P\G\O\O\D\1\/P\G\O\O\D\2\ cannot pull low until this pin goes above 10.38V. A 700ohm active pull-down (See Datasheet)", 27 AUXOUT2 (power) "AUX Supply Output. AUXOUTn is the output from the internal pass FET. A\U\X\P\G\O\O\D\1\/A\U\X\P\G\O\O\D\2\ cannot pull low until this pin goes above 2.855V. A 750ohm active pull-down discharges AUXOUTn to ground when the (See Datasheet)"
part C pins: 10 VCC (power) "Device Supply Input. Operates from 2.7V to 6V. An internal undervoltage lockout circuit disables the part until the voltage at VCC exceeds 2.45V.", 28 GND (power) "Device Ground. Connect to a ground plane."

## LTC4242CG#TR
designator U?
Dual Slot Hot Swap Controller for PCI Express, 3.3 V, 12 V, 3.3 V Aux Vin, 36-pin SOP (G-36), 0 to 70 degC, Tape and Reel; Manufacturer: Linear Technology; PartNumber: LTC4242CG#TR; Active Limiting: yes; Circuit Breaker Accuracy(%): 10; Circuit Breaker Threshold: 50 mV (3.3,12), 550 mA (3.3 aux); Circuit Breakers(#): 6; Extended Temp: C, I; PackageReference: G-36; PackageDescription: 36-Pin Plastic SSOP, Body 12.8 x 5.3 mm, Pitch 0.65 mm; Fault: yes; Packing: Tape and Reel; Power Good: yes; RoHS: FALSE; Vin Range: 3.3 V, 12 V, 3.3 V aux; Mounting Technology: Surface Mount; ComponentLink1Description: Manufacturer URL; ComponentLink1URL: http://www.linear.com/; ComponentLink2Description: Datasheet; ComponentLink2URL: http://cds.linear.com/docs/en/datasheet/4242f.pdf; ComponentLink3Description: Package Specification; ComponentLink3URL: http://cds.linear.com/docs/en/packaging/SSOP_36_05-08-1640.pdf
footprint LT-G-36_N (SOP, 36-Leads, Body 13.1x5.6mm, Pitch 0.65mm, IPC Medium Density)
footprint LT-G-36_L (SOP, 36-Leads, Body 13.1x5.6mm, Pitch 0.65mm, IPC High Density)
footprint LT-G-36_M (SOP, 36-Leads, Body 13.1x5.6mm, Pitch 0.65mm, IPC Low Density)
part A pins: 1 ~{EN1} (in) "Card Presence/Slot Insert Detect Input. E\N\n\ pin must be pulled below 1.235V to enable the system. An internal 9uA pull-up current source is present on this pin.", 2 FON1 (in) "Force On Digital Input. For diagnostic purposes, a high input overrides undervoltage and overcurrent faults on 12V, 3.3V and AUX channels and input commands on the ONn and AUXONn pins. However, UVLO on VCC would shut off the (See Datasheet)", 3 ON1 (in) "Main Supply On Control Input. A rising edge turns on the external MOSFETs for the 12V and 3.3V supplies, while a falling edge turns them off. Pull this pin below 0.6V to clear the faults on 12V and 3.3V channels.", 4 AUXON1 (in) "AUX Supply On Control Input. A rising edge turns on the internal FET, while a falling edge turns it off. Pulling this pin below 0.6V for more than 3.5us clears the fault on the AUX channel.", 5 3VOUT1 (in) "3.3V Output Connection. Connect this pin to the source of the 3.3V supply external N-channel MOSFET for gate drive return. P\G\O\O\D\1\/P\G\O\O\D\2\ cannot pull low until this pin goes above 2.855V. A 375ohm active pull-down (See Datasheet)", 6 3VGATE1 (out) "Gate Drive for 3.3V Supply External N-Channel MOSFET. An internal charge pump provides a 9uA pull-up current to ramp up 3VGATEn. During turn off, a 1mA pull-down current source discharges 3VGATEn to ground. 3VGATEn is (See Datasheet)", 7 3VSENSE1 (in) "3.3V Supply Current Limit Sense Input. A sense resistor is placed in the supply path between 3VINn and 3VSENSEn to sense 3.3V channel’s load current. The voltage across the sense resistor is monitored for active curren(See Datasheet)", 8 3VIN1 (power) "3.3V Supply Input. An undervoltage lockout circuit disables the 3.3V and 12V supplies when 3VINn voltage is less than 2.67V.", 9 AUXIN1 (power) "AUX Supply Input. An undervoltage lockout circuit disables the AUX supply when the voltage at AUXINn is less than 2.67V. AUXINn is the input to the internal pass FET.", 29 AUXOUT1 (power) "AUX Supply Output. AUXOUTn is the output from the internal pass FET. A\U\X\P\G\O\O\D\1\/A\U\X\P\G\O\O\D\2\ cannot pull low until this pin goes above 2.855V. A 750ohm active pull-down discharges AUXOUTn to ground when the (See Datasheet)", 30 12VOUT1 (in) "12V Output Connection. Connect this pin to the source of the 12V supply external N-channel MOSFET for gate drive return. P\G\O\O\D\1\/P\G\O\O\D\2\ cannot pull low until this pin goes above 10.38V. A 700ohm active pull-down (See Datasheet)", 31 12VGATE1 (out) "Gate Drive for 12V Supply External N-Channel MOSFET. An internal charge pump provides a 9uA pull-up current to ramp up 12VGATEn. During turn off, a 1mA pull-down current source discharges 12VGATEn to ground. 12VGATEn is (See Datasheet)", 32 12VSENSE1 (in) "12V Supply Current Limit Sense Input. A sense resistor is placed in the supply path between 12VINn and 12VSENSEn to sense the 12V channel’s load current. The voltage across the sense resistor is monitored for activ(See Datasheet)", 33 12VIN1 (power) "12V Supply Input. An undervoltage lockout circuit disables the 12V and 3.3V supplies when 12VINn voltage is less than 9.78V.", 34 ~{PGOOD1} (oc) "Main Supply Power Status Output. This open-drain pin is pulled high by an internal 9uA pull-up when 12VOUTn or 3VOUTn is below power good threshold, when E\N\n\ is high, ONn is low or when VCC or any of the main supplies are (See Datasheet)", 35 ~{AUXFAULT1} (oc) "AUX Supply Fault Status Output. A\U\X\F\A\U\L\T\n\ is normally pulled high by an internal 9uA pull-up. It asserts low if the AUX channel shuts off due to an overcurrent fault or due to the device temperature rising above (See Datasheet)", 36 ~{FAULT1} (oc) "Main Supplies Fault Status Output. F\A\U\L\T\n\ is pulled high by an internal 9uA pull-up. When an overcurrent fault occurs at either the 12V or 3.3V supply, F\A\U\L\T\n\ is latched low."
part B pins: 11 AUXIN2 (power) "AUX Supply Input. An undervoltage lockout circuit disables the AUX supply when the voltage at AUXINn is less than 2.67V. AUXINn is the input to the internal pass FET.", 12 3VIN2 (power) "3.3V Supply Input. An undervoltage lockout circuit disables the 3.3V and 12V supplies when 3VINn voltage is less than 2.67V.", 13 3VSENSE2 (in) "3.3V Supply Current Limit Sense Input. A sense resistor is placed in the supply path between 3VINn and 3VSENSEn to sense 3.3V channel’s load current. The voltage across the sense resistor is monitored for active curren(See Datasheet)", 14 3VGATE2 (out) "Gate Drive for 3.3V Supply External N-Channel MOSFET. An internal charge pump provides a 9uA pull-up current to ramp up 3VGATEn. During turn off, a 1mA pull-down current source discharges 3VGATEn to ground. 3VGATEn is (See Datasheet)", 15 3VOUT2 (in) "3.3V Output Connection. Connect this pin to the source of the 3.3V supply external N-channel MOSFET for gate drive return. P\G\O\O\D\1\/P\G\O\O\D\2\ cannot pull low until this pin goes above 2.855V. A 375ohm active pull-down (See Datasheet)", 16 AUXON2 (in) "AUX Supply On Control Input. A rising edge turns on the internal FET, while a falling edge turns it off. Pulling this pin below 0.6V for more than 3.5us clears the fault on the AUX channel.", 17 ON2 (in) "Main Supply On Control Input. A rising edge turns on the external MOSFETs for the 12V and 3.3V supplies, while a falling edge turns them off. Pull this pin below 0.6V to clear the faults on 12V and 3.3V channels.", 18 FON2 (in) "Force On Digital Input. For diagnostic purposes, a high input overrides undervoltage and overcurrent faults on 12V, 3.3V and AUX channels and input commands on the ONn and AUXONn pins. However, UVLO on VCC would shut off the (See Datasheet)", 19 ~{EN2} (in) "Card Presence/Slot Insert Detect Input. E\N\n\ pin must be pulled below 1.235V to enable the system. An internal 9uA pull-up current source is present on this pin.", 20 ~{FAULT2} (oc) "Main Supplies Fault Status Output. F\A\U\L\T\n\ is pulled high by an internal 9uA pull-up. When an overcurrent fault occurs at either the 12V or 3.3V supply, F\A\U\L\T\n\ is latched low.", 21 ~{AUXFAULT2} (oc) "AUX Supply Fault Status Output. A\U\X\F\A\U\L\T\n\ is normally pulled high by an internal 9uA pull-up. It asserts low if the AUX channel shuts off due to an overcurrent fault or due to the device temperature rising above (See Datasheet)", 22 ~{PGOOD2} (oc) "Main Supply Power Status Output. This open-drain pin is pulled high by an internal 9uA pull-up when 12VOUTn or 3VOUTn is below power good threshold, when E\N\n\ is high, ONn is low or when VCC or any of the main supplies are (See Datasheet)", 23 12VIN2 (power) "12V Supply Input. An undervoltage lockout circuit disables the 12V and 3.3V supplies when 12VINn voltage is less than 9.78V.", 24 12VSENSE2 (in) "12V Supply Current Limit Sense Input. A sense resistor is placed in the supply path between 12VINn and 12VSENSEn to sense the 12V channel’s load current. The voltage across the sense resistor is monitored for activ(See Datasheet)", 25 12VGATE2 (out) "Gate Drive for 12V Supply External N-Channel MOSFET. An internal charge pump provides a 9uA pull-up current to ramp up 12VGATEn. During turn off, a 1mA pull-down current source discharges 12VGATEn to ground. 12VGATEn is (See Datasheet)", 26 12VOUT2 (in) "12V Output Connection. Connect this pin to the source of the 12V supply external N-channel MOSFET for gate drive return. P\G\O\O\D\1\/P\G\O\O\D\2\ cannot pull low until this pin goes above 10.38V. A 700ohm active pull-down (See Datasheet)", 27 AUXOUT2 (power) "AUX Supply Output. AUXOUTn is the output from the internal pass FET. A\U\X\P\G\O\O\D\1\/A\U\X\P\G\O\O\D\2\ cannot pull low until this pin goes above 2.855V. A 750ohm active pull-down discharges AUXOUTn to ground when the (See Datasheet)"
part C pins: 10 VCC (power) "Device Supply Input. Operates from 2.7V to 6V. An internal undervoltage lockout circuit disables the part until the voltage at VCC exceeds 2.45V.", 28 GND (power) "Device Ground. Connect to a ground plane."